# EAGLE library part 315-5365 (library 2010.09.20)
The 315-5365 Paging Chip The 315-5365 can handle 32 × 16KB ROM pages, giving a total of 512KB addressable space. It supports paging in frames 0 (cartridge address 0x400-0x3FFF), 1 (0x4000-0x7FFF), and 2 (0x8000-0xBFFF). It is unknown whether this chip supports SRAM. ROM TYPE low (GND) HIGH (VCC) CE0 0x000000—0x7FFFF 0x00000—0x1FFFF CE1 0x400000—0x7FFFF 0x40000—0x7FFFF CE2 0x000000—0x3FFFF 0x20000—0x3FFFF Information in this document <http://www.smspower.org/Development/SMSPagingChips#The3155365PagingChip> is compiled from postings by Mike G. and Charles Mac Donald on the S8-Dev Forum <http://www.smspower.org/forums/viewforum.php?f=3&sid=bd04805781e762a1d000575466c5f495>, and from personal investigations by Zoop and Eric Quinn. Drawn by Darren Lue Choy 2010.09.20
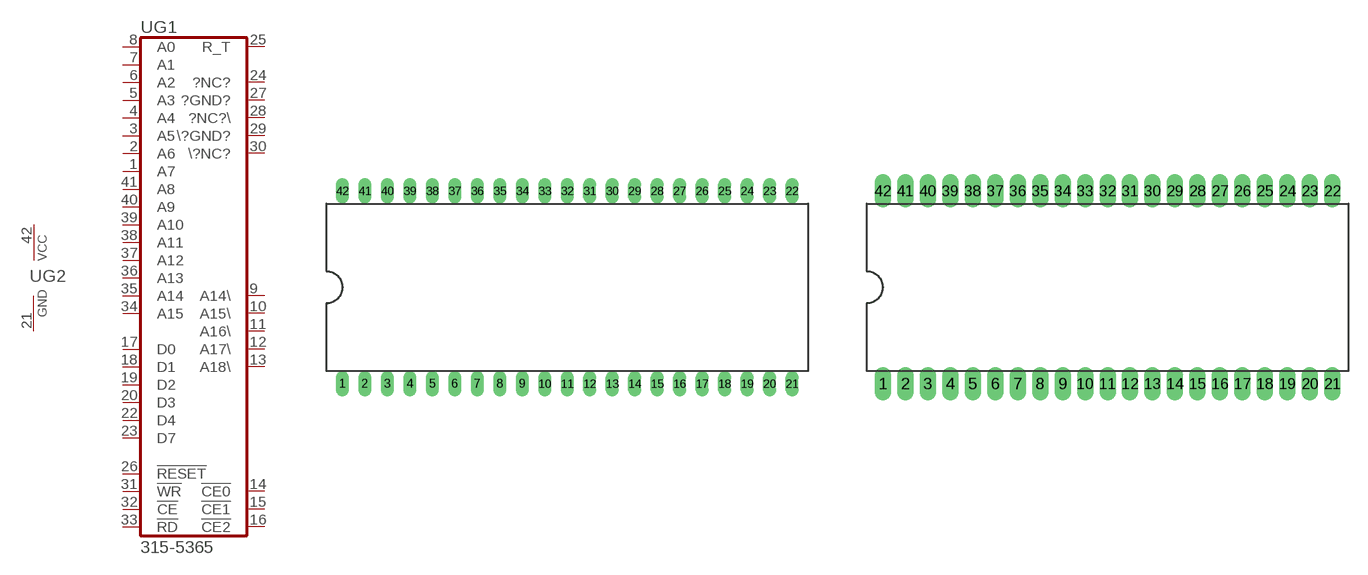
[diagram p6: symbol with the pads of DIL42-6.07.SMDRILL; footprints DIL42-6.07.SMDRILL, DIL42-6.07]

Designator prefix -; gates G1=315-5365 G2=PWRN

## 315-5365SM  [DIL42-6.07.SMDRILL]
1  G1:A7  in
2  G1:A6  in
3  G1:A5  in
4  G1:A4  in
5  G1:A3  in
6  G1:A2  in
7  G1:A1  in
8  G1:A0  in
9  G1:A14\  out
10  G1:A15\  out
11  G1:A16\  out
12  G1:A17\  out
13  G1:A18\  out
14  G1:!CE0  out
15  G1:!CE1  out
16  G1:!CE2  out
17  G1:D0  in
18  G1:D1  in
19  G1:D2  in
20  G1:D3  in
21  G2:GND  pwr
22  G1:D4  in
23  G1:D7  in
24  G1:?NC?
25  G1:R_T  in
26  G1:!RESET  in
27  G1:?GND?  in
28  G1:?NC?\
29  G1:\?GND?  in
30  G1:\?NC?
31  G1:!WR  in
32  G1:!CE  in
33  G1:!RD  in
34  G1:A15  in
35  G1:A14  in
36  G1:A13  in
37  G1:A12  in
38  G1:A11  in
39  G1:A10  in
40  G1:A9  in
41  G1:A8  in
42  G2:VCC  pwr

## 315-5365  [DIL42-6.07]
Pads as for DIL42-6.07.SMDRILL

## Footprint DIL42-6.07.SMDRILL (pad centres in mm)
Dual In Line Package 0.6 inch 0.07 pitch Drawn by D Lue Choy µ 2010.09.20
drill 0.5 long: 1 -17.78,-7.62; 2 -16.002,-7.62; 3 -14.224,-7.62; 4 -12.446,-7.62; 5 -10.668,-7.62; 6 -8.89,-7.62; 7 -7.112,-7.62; 8 -5.334,-7.62; 9 -3.556,-7.62; 10 -1.778,-7.62; 11 0,-7.62; 12 1.778,-7.62; 13 3.556,-7.62; 14 5.334,-7.62; 15 7.112,-7.62; 16 8.89,-7.62; 17 10.668,-7.62; 18 12.446,-7.62; 19 14.224,-7.62; 20 16.002,-7.62; 21 17.78,-7.62; 22 17.78,7.62; 23 16.002,7.62; 24 14.224,7.62; 25 12.446,7.62; 26 10.668,7.62; 27 8.89,7.62; 28 7.112,7.62; 29 5.334,7.62; 30 3.556,7.62; 31 1.778,7.62; 32 0,7.62; 33 -1.778,7.62; 34 -3.556,7.62; 35 -5.334,7.62; 36 -7.112,7.62; 37 -8.89,7.62; 38 -10.668,7.62; 39 -12.446,7.62; 40 -14.224,7.62; 41 -16.002,7.62; 42 -17.78,7.62

## Footprint DIL42-6.07 (pad centres in mm)
Dual In Line Package 0.6 inch 0.07 pitch Drawn by D Lue Choy µ 2010.09.20
drill 0.813 long: 1 -17.78,-7.62; 2 -16.002,-7.62; 3 -14.224,-7.62; 4 -12.446,-7.62; 5 -10.668,-7.62; 6 -8.89,-7.62; 7 -7.112,-7.62; 8 -5.334,-7.62; 9 -3.556,-7.62; 10 -1.778,-7.62; 11 0,-7.62; 12 1.778,-7.62; 13 3.556,-7.62; 14 5.334,-7.62; 15 7.112,-7.62; 16 8.89,-7.62; 17 10.668,-7.62; 18 12.446,-7.62; 19 14.224,-7.62; 20 16.002,-7.62; 21 17.78,-7.62; 22 17.78,7.62; 23 16.002,7.62; 24 14.224,7.62; 25 12.446,7.62; 26 10.668,7.62; 27 8.89,7.62; 28 7.112,7.62; 29 5.334,7.62; 30 3.556,7.62; 31 1.778,7.62; 32 0,7.62; 33 -1.778,7.62; 34 -3.556,7.62; 35 -5.334,7.62; 36 -7.112,7.62; 37 -8.89,7.62; 38 -10.668,7.62; 39 -12.446,7.62; 40 -14.224,7.62; 41 -16.002,7.62; 42 -17.78,7.62